# Altium schematic symbol library SW_SPST.SchLib: 2 symbols
Pins are listed as number, name and electrical type; pins without a type are passive.

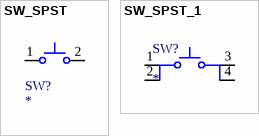
[diagram p0: symbols SW_SPST to SW_SPST_1]

## SW_SPST
designator SW?
pins: 1, 2

## SW_SPST_1
designator SW?
pins: 1, 2, 3, 4